# Altium footprint library 691 320 510 0xx.PcbLib: 6 footprints
Each footprint in its own frame and in the unit in brackets; x right, y up, seen from the top. Pads: shape width x height; smd on the part's side, far side on the other; paste and mask are expansions set on the pad; w line width, h text height; cw(c..) or ccw(c..) is an arc to the next point about the centre after c.
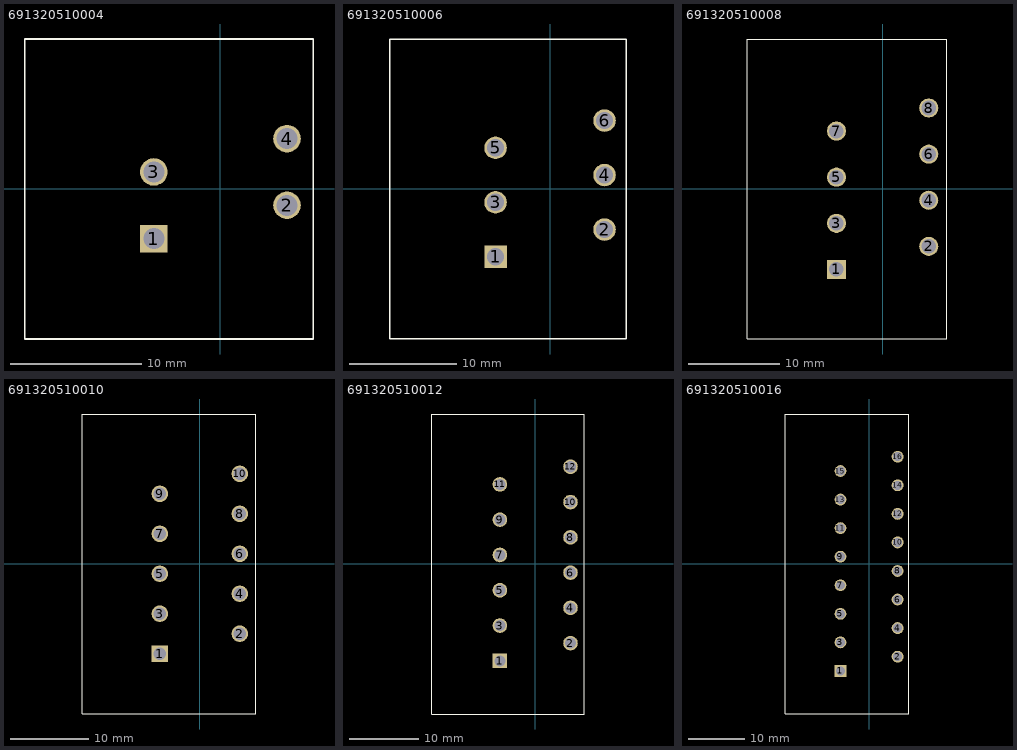
[diagram p0: the footprints below, top view; thin cyan lines are the x and y axes]

## 691320510004 [mm] "5,08mm - PCB - Dual row - Staggered - Horizontal - Flanges - 04p"
height 23.7
pads (4):
  rect 2.1x2.1 hole 1.6: 1(-5.08,-3.81)
  round 2.1 hole 1.6: 2(5.08,-1.27) 3(-5.08,1.27) 4(5.08,3.81)
Top Overlay:
  lines w0.127: -14.92,-11.47 7.08,-11.47 7.08,11.41 -14.92,11.41 -14.92,-11.47
3D body: height 23.71, standoff -3.99, extent -14.92,-11.47 7.08,11.39

## 691320510006 [mm] "5,08mm - PCB - Dual row - Staggered - Horizontal - Flanges - 06p"
height 23.7
pads (6):
  rect 2.1x2.1 hole 1.6: 1(-5.08,-6.35)
  round 2.1 hole 1.6: 2(5.08,-3.81) 3(-5.08,-1.27) 4(5.08,1.27) 5(-5.08,3.81) 6(5.08,6.35)
Top Overlay:
  lines w0.127: -14.92,-8.93 -14.92,13.95 7.08,13.95 7.08,-8.93 ; -14.92,8.87 -14.92,-14.01 7.08,-14.01 7.08,8.87
3D body: height 23.71, standoff -3.99, extent -14.92,-14.01 7.08,13.93

## 691320510008 [mm] "5,08mm - PCB - Dual row - Staggered - Horizontal - Flanges - 08p"
height 23.7
pads (8):
  rect 2.1x2.1 hole 1.6: 1(-5.08,-8.89)
  round 2.1 hole 1.6: 2(5.08,-6.35) 3(-5.08,-3.81) 4(5.08,-1.27) 5(-5.08,1.27) 6(5.08,3.81) 7(-5.08,6.35) 8(5.08,8.89)
Top Overlay:
  lines w0.127: -14.92,-6.39 -14.92,16.49 7.08,16.49 7.08,-6.39 ; -14.92,6.33 -14.92,-16.55 7.08,-16.55 7.08,6.33
3D body: height 23.71, standoff -3.99, extent -14.92,-16.55 7.08,16.47

## 691320510010 [mm] "5,08mm - PCB - Dual row - Staggered - Horizontal - Flanges - 10p"
height 23.7
pads (10):
  rect 2.1x2.1 hole 1.6: 1(-5.08,-11.43)
  round 2.1 hole 1.6: 2(5.08,-8.89) 3(-5.08,-6.35) 4(5.08,-3.81) 5(-5.08,-1.27) 6(5.08,1.27) 7(-5.08,3.81) 8(5.08,6.35) 9(-5.08,8.89) 10(5.08,11.43)
Top Overlay:
  lines w0.127: -14.92,-8.93 -14.92,13.95 ; -14.92,-3.85 -14.92,19.03 7.08,19.03 7.08,-3.85 ; -14.92,3.79 -14.92,-19.09 7.08,-19.09 7.08,3.79 ; 7.08,-8.93 7.08,13.95
3D body: height 23.71, standoff -3.99, extent -14.92,-19.09 7.08,19.01

## 691320510012 [mm] "5,08mm - PCB - Dual row - Staggered - Horizontal - Flanges - 12p"
height 23.7
pads (12):
  rect 2.1x2.1 hole 1.6: 1(-5.08,-13.97)
  round 2.1 hole 1.6: 2(5.08,-11.43) 3(-5.08,-8.89) 4(5.08,-6.35) 5(-5.08,-3.81) 6(5.08,-1.27) 7(-5.08,1.27) 8(5.08,3.81) 9(-5.08,6.35) 10(5.08,8.89) 11(-5.08,11.43) 12(5.08,13.97)
Top Overlay:
  lines w0.127: -14.92,-11.47 -14.92,11.41 ; -14.92,-1.31 -14.92,21.57 7.08,21.57 7.08,-1.31 ; -14.92,1.25 -14.92,-21.63 7.08,-21.63 7.08,1.25 ; 7.08,-11.47 7.08,11.41
3D body: height 23.71, standoff -3.99, extent -14.92,-21.63 7.08,21.55

## 691320510016 [mm] "5,08mm - PCB - Dual row - Staggered - Horizontal - Flanges - 16p"
height 23.7
pads (16):
  rect 2.1x2.1 hole 1.6: 1(-5.08,-19.05)
  round 2.1 hole 1.6: 2(5.08,-16.51) 3(-5.08,-13.97) 4(5.08,-11.43) 5(-5.08,-8.89) 6(5.08,-6.35) 7(-5.08,-3.81) 8(5.08,-1.27) 9(-5.08,1.27) 10(5.08,3.81) 11(-5.08,6.35) 12(5.08,8.89) 13(-5.08,11.43) 14(5.08,13.97) 15(-5.08,16.51) 16(5.08,19.05)
Top Overlay:
  lines w0.127: -14.92,-16.55 -14.92,6.33 ; -14.92,-6.39 -14.92,16.49 ; -14.92,-3.83 -14.92,-26.71 7.08,-26.71 7.08,-3.83 ; -14.92,3.77 -14.92,26.65 7.08,26.65 7.08,3.77 ; 7.08,-16.55 7.08,6.33 ; 7.08,-6.39 7.08,16.49
3D body: height 23.71, standoff -3.99, extent -14.92,-26.71 7.08,26.63